# Altium footprint library DXPpcb.PCBLIB: 575 footprints (part 31 of 36)
Each footprint in its own frame and in the unit in brackets; x right, y up, seen from the top. Pads: shape width x height; smd on the part's side, far side on the other; paste and mask are expansions set on the pad; w line width, h text height; cw(c..) or ccw(c..) is an arc to the next point about the centre after c.
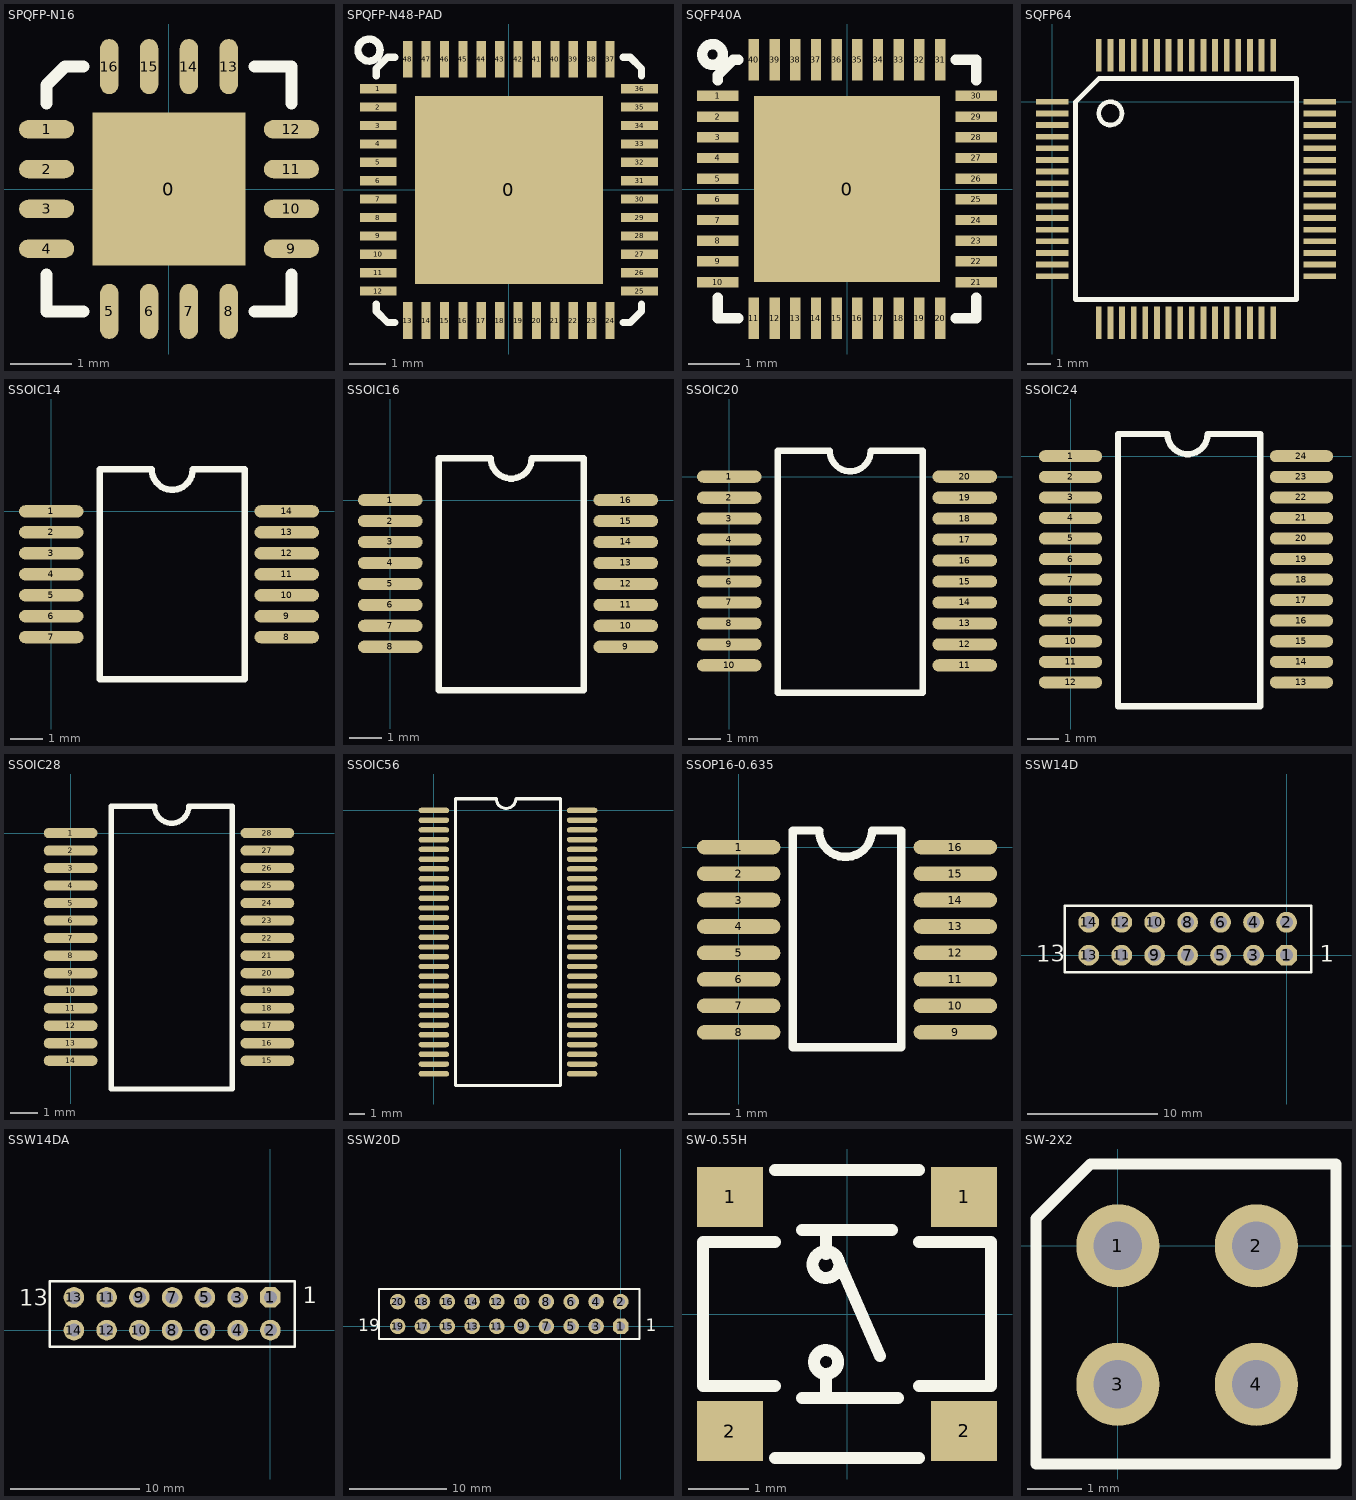
[diagram p30: the footprints below, top view; thin cyan lines are the x and y axes]

## SPQFP-N16 [mm]
pads (17):
  rect 2.5x2.5 smd: 0(0,0)
  oval 0.9x0.3 smd: 1(-2,0.975) 2(-2,0.325) 3(-2,-0.325) 4(-2,-0.975) 9(2,-0.975) 10(2,-0.325) 11(2,0.325) 12(2,0.975)
  oval 0.3x0.9 smd: 5(-0.975,-2) 6(-0.325,-2) 7(0.325,-2) 8(0.975,-2) 13(0.975,2) 14(0.325,2) 15(-0.325,2) 16(-0.975,2)
TopOverlay:
  lines w0.2: -2,-1.4 -2,-2 -1.4,-2 ; -2,1.4 -2,1.7 -1.7,2 -1.4,2 ; 1.4,-2 2,-2 2,-1.4 ; 1.4,2 2,2 2,1.4

## SPQFP-N48-PAD [mm]
pads (49):
  rect 5.1x5.1 smd: 0(0,0)
  rect 1x0.25 smd: 1(-3.55,2.75) 2(-3.55,2.25) 3(-3.55,1.75) 4(-3.55,1.25) 5(-3.55,0.75) 6(-3.55,0.25) 7(-3.55,-0.25) 8(-3.55,-0.75) 9(-3.55,-1.25) 10(-3.55,-1.75) 11(-3.55,-2.25) 12(-3.55,-2.75) 25(3.55,-2.75) 26(3.55,-2.25) 27(3.55,-1.75) 28(3.55,-1.25) 29(3.55,-0.75) 30(3.55,-0.25) 31(3.55,0.25) 32(3.55,0.75) 33(3.55,1.25) 34(3.55,1.75) 35(3.55,2.25) 36(3.55,2.75)
  rect 0.25x1 smd: 13(-2.75,-3.55) 14(-2.25,-3.55) 15(-1.75,-3.55) 16(-1.25,-3.55) 17(-0.75,-3.55) 18(-0.25,-3.55) 19(0.25,-3.55) 20(0.75,-3.55) 21(1.25,-3.55) 22(1.75,-3.55) 23(2.25,-3.55) 24(2.75,-3.55) 37(2.75,3.55) 38(2.25,3.55) 39(1.75,3.55) 40(1.25,3.55) 41(0.75,3.55) 42(0.25,3.55) 43(-0.25,3.55) 44(-0.75,3.55) 45(-1.25,3.55) 46(-1.75,3.55) 47(-2.25,3.55) 48(-2.75,3.55)
TopOverlay:
  circle w0.2: c-3.8,3.8 r0.3
  lines w0.2: -3.6,-3.1 -3.6,-3.3 -3.3,-3.6 -3.1,-3.6 ; -3.6,3.1 -3.6,3.3 -3.3,3.6 -3.1,3.6 ; 3.1,-3.6 3.3,-3.6 3.6,-3.3 3.6,-3.1 ; 3.1,3.6 3.3,3.6 3.6,3.3 3.6,3.1

## SQFP40A [mm]
pads (41):
  rect 3.6x3.6 smd: 0(0,0)
  rect 0.8x0.2 smd: 1(-2.5,1.8) 2(-2.5,1.4) 3(-2.5,1) 4(-2.5,0.6) 5(-2.5,0.2) 6(-2.5,-0.2) 7(-2.5,-0.6) 8(-2.5,-1) 9(-2.5,-1.4) 10(-2.5,-1.8) 21(2.5,-1.8) 22(2.5,-1.4) 23(2.5,-1) 24(2.5,-0.6) 25(2.5,-0.2) 26(2.5,0.2) 27(2.5,0.6) 28(2.5,1) 29(2.5,1.4) 30(2.5,1.8)
  rect 0.2x0.8 smd: 11(-1.8,-2.5) 12(-1.4,-2.5) 13(-1,-2.5) 14(-0.6,-2.5) 15(-0.2,-2.5) 16(0.2,-2.5) 17(0.6,-2.5) 18(1,-2.5) 19(1.4,-2.5) 20(1.8,-2.5) 31(1.8,2.5) 32(1.4,2.5) 33(1,2.5) 34(0.6,2.5) 35(0.2,2.5) 36(-0.2,2.5) 37(-0.6,2.5) 38(-1,2.5) 39(-1.4,2.5) 40(-1.8,2.5)
TopOverlay:
  circle w0.2: c-2.6,2.6 r0.2
  lines w0.2: -2.5,-2.1 -2.5,-2.5 -2.1,-2.5 ; -2.5,2.1 -2.5,2.2 -2.2,2.5 -2.1,2.5 ; 2.1,-2.5 2.5,-2.5 2.5,-2.1 ; 2.1,2.5 2.5,2.5 2.5,2.1

## SQFP64 [mm]
pads (64):
  rect 1.4x0.25 smd: 1(0,0) 2(0,-0.5) 3(0,-1) 4(0,-1.5) 5(0,-2) 6(0,-2.5) 7(0,-3) 8(0,-3.5) 9(0,-4) 10(0,-4.5) 11(0,-5) 12(0,-5.5) 13(0,-6) 14(0,-6.5) 15(0,-7) 16(0,-7.5) 33(11.5,-7.5) 34(11.5,-7) 35(11.5,-6.5) 36(11.5,-6) 37(11.5,-5.5) 38(11.5,-5) 39(11.5,-4.5) 40(11.5,-4) 41(11.5,-3.5) 42(11.5,-3) 43(11.5,-2.5) 44(11.5,-2) 45(11.5,-1.5) 46(11.5,-1) 47(11.5,-0.5) 48(11.5,0)
  rect 0.25x1.4 smd: 17(2,-9.5) 18(2.5,-9.5) 19(3,-9.5) 20(3.5,-9.5) 21(4,-9.5) 22(4.5,-9.5) 23(5,-9.5) 24(5.5,-9.5) 25(6,-9.5) 26(6.5,-9.5) 27(7,-9.5) 28(7.5,-9.5) 29(8,-9.5) 30(8.5,-9.5) 31(9,-9.5) 32(9.5,-9.5) 49(9.5,2) 50(9,2) 51(8.5,2) 52(8,2) 53(7.5,2) 54(7,2) 55(6.5,2) 56(6,2) 57(5.5,2) 58(5,2) 59(4.5,2) 60(4,2) 61(3.5,2) 62(3,2) 63(2.5,2) 64(2,2)
TopOverlay:
  circle w0.2: c2.5,-0.5 r0.5
  lines w0.2: 1,-8.5 1,0 2,1 10.5,1 10.5,-8.5 1,-8.5

## SSOIC14 [mm]
pads (14):
  oval 2x0.38 smd: 1(0,0) 2(0,-0.65) 3(0,-1.3) 4(0,-1.95) 5(0,-2.6) 6(0,-3.25) 7(0,-3.9) 8(7.3,-3.9) 9(7.3,-3.25) 10(7.3,-2.6) 11(7.3,-1.95) 12(7.3,-1.3) 13(7.3,-0.65) 14(7.3,0)
TopOverlay:
  lines w0.2: 3.1,1.3 1.5,1.3 1.5,-5.2 6,-5.2 6,1.3 4.385,1.3 cw(c3.75,1.3) 3.115,1.3

## SSOIC16 [mm]
pads (16):
  oval 2x0.38 smd: 1(0,0) 2(0,-0.65) 3(0,-1.3) 4(0,-1.95) 5(0,-2.6) 6(0,-3.25) 7(0,-3.9) 8(0,-4.55) 9(7.3,-4.55) 10(7.3,-3.9) 11(7.3,-3.25) 12(7.3,-2.6) 13(7.3,-1.95) 14(7.3,-1.3) 15(7.3,-0.65) 16(7.3,0)
TopOverlay:
  lines w0.2: 3.1,1.3 1.5,1.3 1.5,-5.9 6,-5.9 6,1.3 4.385,1.3 cw(c3.75,1.3) 3.115,1.3

## SSOIC20 [mm]
pads (20):
  oval 2x0.38 smd: 1(0,0) 2(0,-0.65) 3(0,-1.3) 4(0,-1.95) 5(0,-2.6) 6(0,-3.25) 7(0,-3.9) 8(0,-4.55) 9(0,-5.2) 10(0,-5.85) 11(7.3,-5.85) 12(7.3,-5.2) 13(7.3,-4.55) 14(7.3,-3.9) 15(7.3,-3.25) 16(7.3,-2.6) 17(7.3,-1.95) 18(7.3,-1.3) 19(7.3,-0.65) 20(7.3,0)
TopOverlay:
  lines w0.2: 3.1,0.8 1.5,0.8 1.5,-6.7 6,-6.7 6,0.8 4.385,0.8 cw(c3.75,0.8) 3.115,0.8

## SSOIC24 [mm]
pads (24):
  oval 2x0.38 smd: 1(0,0) 2(0,-0.65) 3(0,-1.3) 4(0,-1.95) 5(0,-2.6) 6(0,-3.25) 7(0,-3.9) 8(0,-4.55) 9(0,-5.2) 10(0,-5.85) 11(0,-6.5) 12(0,-7.15) 13(7.3,-7.15) 14(7.3,-6.5) 15(7.3,-5.85) 16(7.3,-5.2) 17(7.3,-4.55) 18(7.3,-3.9) 19(7.3,-3.25) 20(7.3,-2.6) 21(7.3,-1.95) 22(7.3,-1.3) 23(7.3,-0.65) 24(7.3,0)
TopOverlay:
  lines w0.2: 3,0.7 1.5,0.7 1.5,-7.9 6,-7.9 6,0.7 4.335,0.7 cw(c3.7,0.7) 3.065,0.7

## SSOIC28 [mm]
pads (28):
  oval 2x0.38 smd: 1(0,0) 2(0,-0.65) 3(0,-1.3) 4(0,-1.95) 5(0,-2.6) 6(0,-3.25) 7(0,-3.9) 8(0,-4.55) 9(0,-5.2) 10(0,-5.85) 11(0,-6.5) 12(0,-7.15) 13(0,-7.8) 14(0,-8.45) 15(7.3,-8.45) 16(7.3,-7.8) 17(7.3,-7.15) 18(7.3,-6.5) 19(7.3,-5.85) 20(7.3,-5.2) 21(7.3,-4.55) 22(7.3,-3.9) 23(7.3,-3.25) 24(7.3,-2.6) 25(7.3,-1.95) 26(7.3,-1.3) 27(7.3,-0.65) 28(7.3,0)
TopOverlay:
  lines w0.2: 3.1,1 1.5,1 1.5,-9.5 6,-9.5 6,1 4.385,1 cw(c3.75,1) 3.115,1

## SSOIC56 [mil]
pads (56):
  oval 78x14 smd: 1(0,0) 2(0,-25) 3(0,-50) 4(0,-75) 5(0,-100) 6(0,-125) 7(0,-150) 8(0,-175) 9(0,-200) 10(0,-225) 11(0,-250) 12(0,-275) 13(0,-300) 14(0,-325) 15(0,-350) 16(0,-375) 17(0,-400) 18(0,-425) 19(0,-450) 20(0,-475) 21(0,-500) 22(0,-525) 23(0,-550) 24(0,-575) 25(0,-600) 26(0,-625) 27(0,-650) 28(0,-675) 29(380,-675) 30(380,-650) 31(380,-625) 32(380,-600) 33(380,-575) 34(380,-550) 35(380,-525) 36(380,-500) 37(380,-475) 38(380,-450) 39(380,-425) 40(380,-400) 41(380,-375) 42(380,-350) 43(380,-325) 44(380,-300) 45(380,-275) 46(380,-250) 47(380,-225) 48(380,-200) 49(380,-175) 50(380,-150) 51(380,-125) 52(380,-100) 53(380,-75) 54(380,-50) 55(380,-25) 56(380,0)
TopOverlay:
  lines w7.87: 55,-705 325,-705 325,30 210,30 cw(c185,30) 160,30 55,30 55,-705

## SSOP16-0.635 [mm]
pads (16):
  oval 2x0.35 smd: 1(0,0) 2(0,-0.635) 3(0,-1.27) 4(0,-1.905) 5(0,-2.54) 6(0,-3.175) 7(0,-3.81) 8(0,-4.445) 9(5.2,-4.445) 10(5.2,-3.81) 11(5.2,-3.175) 12(5.2,-2.54) 13(5.2,-1.905) 14(5.2,-1.27) 15(5.2,-0.635) 16(5.2,0)
TopOverlay:
  lines w0.2: 1.9,0.4 1.3,0.4 1.3,-4.8 3.9,-4.8 3.9,0.4 3.235,0.4 ; 1.93,0.4 ccw(c2.565,0.4) 3.2,0.4

## SSW14D [mm]
pads (14):
  oct 1.6x1.6 hole 1: 1(0,0)
  round 1.6 hole 1: 2(0,2.54) 3(-2.54,0) 4(-2.54,2.54) 5(-5.08,0) 6(-5.08,2.54) 7(-7.62,0) 8(-7.62,2.54) 9(-10.16,0) 10(-10.16,2.54) 11(-12.7,0) 12(-12.7,2.54) 13(-15.24,0) 14(-15.24,2.54)
TopOverlay:
  lines w0.2: -17.1,-1.3 -17.1,3.8 1.9,3.8 1.9,-1.3 -17.1,-1.3
  text "1" at 2.54,-0.508 h1.27
  text "13" at -19.304,-0.508 h1.27

## SSW14DA [mm]
pads (14):
  oct 1.6x1.6 hole 1: 1(0,2.54)
  round 1.6 hole 1: 2(0,0) 3(-2.54,2.54) 4(-2.54,0) 5(-5.08,2.54) 6(-5.08,0) 7(-7.62,2.54) 8(-7.62,0) 9(-10.16,2.54) 10(-10.16,0) 11(-12.7,2.54) 12(-12.7,0) 13(-15.24,2.54) 14(-15.24,0)
TopOverlay:
  lines w0.2: -17.1,-1.3 -17.1,3.8 1.9,3.8 1.9,-1.3 -17.1,-1.3
  text "1" at 2.5,2.1 h1.27
  text "13" at -19.5,1.9 h1.27

## SSW20D [mm]
pads (20):
  oct 1.6x1.6 hole 0.9: 1(0,0)
  round 1.6 hole 0.9: 2(0,2.54) 3(-2.54,0) 4(-2.54,2.54) 5(-5.08,0) 6(-5.08,2.54) 7(-7.62,0) 8(-7.62,2.54) 9(-10.16,0) 10(-10.16,2.54) 11(-12.7,0) 12(-12.7,2.54) 13(-15.24,0) 14(-15.24,2.54) 15(-17.78,0) 16(-17.78,2.54) 17(-20.32,0) 18(-20.32,2.54) 19(-22.86,0) 20(-22.86,2.54)
TopOverlay:
  lines w0.2: -24.765,-1.27 1.905,-1.27 1.905,3.81 -24.765,3.81 -24.765,-1.27
  text "19" at -26.924,-0.508 h1.27
  text "1" at 2.54,-0.508 h1.27

## SW-0.55H [mm]
pads (4):
  rect 1.1x1 smd: 1(-1.95,1.95) 1(1.95,1.95) 2(-1.95,-1.95) 2(1.95,-1.95)
TopOverlay:
  circle w0.2: c-0.35,0.824 r0.224
  circle w0.2: c-0.35,-0.8 r0.2
  lines w0.2: -1.2,-2.4 1.2,-2.4 ; -1.2,-1.2 -2.4,-1.2 -2.4,1.2 -1.2,1.2 ; -1.2,2.4 1.2,2.4 ; -0.75,-1.4 0.85,-1.4 ; -0.75,1.4 0.75,1.4 ; -0.35,-1.4 -0.35,-1 ; -0.35,1 -0.35,1.4 ; -0.15,0.9 0.55,-0.7 ; 1.2,-1.2 2.4,-1.2 2.4,1.2 1.2,1.2

## SW-2X2 [mil]
pads (4):
  round 60 hole 35: 1(0,0) 2(100,0) 3(0,-100) 4(100,-100)
TopOverlay:
  lines w7.87: -59.06,-157.48 157.48,-157.48 157.48,59.06 -19.68,59.06 -59.06,19.68 -59.06,-157.48